# EAGLE library part LTC4366-* (library ic-LT)
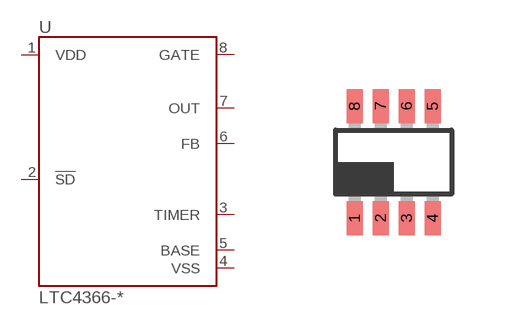
[diagram p1: symbol with the pads of SOT23-8; footprint SOT23-8]

Designator prefix U

## LTC4366-1, LTC4366-2  [SOT23-8]
1  VDD
2  !SD
3  TIMER
4  VSS
5  BASE
6  FB
7  OUT
8  GATE

## Footprint SOT23-8 (pad centres in mm)
smd 0.4 x 0.85: 1 -0.975,-1.4; 2 -0.325,-1.4; 3 0.325,-1.4; 4 0.975,-1.4; 5 0.975,1.4; 6 0.325,1.4; 7 -0.325,1.4; 8 -0.975,1.4